# EAGLE library part 686122148922 (library Eagle_FPC_CONNECTOR_AND_FFC_CAB (rev18c))
WR-FPC 1mm SMT Horiz. Bot. Contact Hinge type WR-FPC 1mm 22 pins Hinge type SMT Horizontal Bottom Contact ;=>Code : Con_FPC_ZIF_1.00_6861xx148922_686122148922 <http://katalog.we-online.de/media/images/eican/Con_FPC_ZIF_1.00_686110148922_pf2.jpg> Details see: http://katalog.we-online.de/em/datasheet/6861xx148922.pdf Created 2014-10-08, Karrer Zheng 2014 (C) Wurth Elektronik
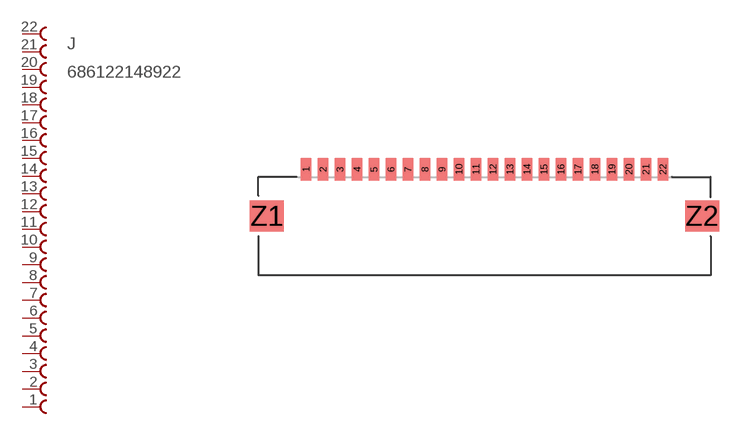
[diagram p99: symbol with the pads of 686122148922; footprint 686122148922]

Designator prefix J

## 686122148922  [686122148922]
1  22  pas
2  21  pas
3  20  pas
4  19  pas
5  18  pas
6  17  pas
7  16  pas
8  15  pas
9  14  pas
10  13  pas
11  12  pas
12  11  pas
13  10  pas
14  9  pas
15  8  pas
16  7  pas
17  6  pas
18  5  pas
19  4  pas
20  3  pas
21  2  pas
22  1  pas

## Footprint 686122148922 (pad centres in mm)
WR-FPC 1mm SMT Horiz. Bot. Contact Hinge type WR-FPC 1mm 22pins Hinge type SMT Horizontal Bottom Contact
smd 0.6 x 1.3: 1 -10.5,2.75; 2 -9.5,2.75; 3 -8.5,2.75; 4 -7.5,2.75; 5 -6.5,2.75; 6 -5.5,2.75; 7 -4.5,2.75; 8 -3.5,2.75; 9 -2.5,2.75; 10 -1.5,2.75; 11 -0.5,2.75; 12 0.5,2.75; 13 1.5,2.75; 14 2.5,2.75; 15 3.5,2.75; 16 4.5,2.75; 17 5.5,2.75; 18 6.5,2.75; 19 7.5,2.75; 20 8.5,2.75; 21 9.5,2.75; 22 10.5,2.75
smd 2 x 1.8: Z1 -12.8,0; Z2 12.8,0